# EAGLE library part MD-70SM (library con-cui)
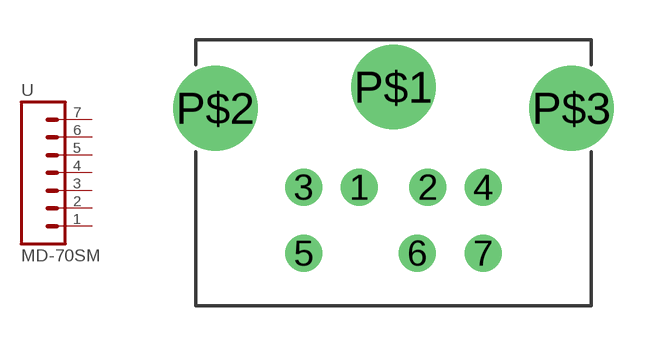
[diagram p1: symbol with the pads of MD-70SM; footprint MD-70SM]

Designator prefix -

## MD-70SM  [MD-70SM]
1  1  pas
2  2  pas
3  3  pas
4  4  pas
5  5  pas
6  6  pas
7  7  pas

## Footprint MD-70SM (pad centres in mm)
drill 0.9: 1 -1.3,-3.8; 2 1.3,-3.8; 3 -3.4,-3.8; 4 3.4,-3.8; 5 -3.4,-6.3; 6 0.9,-6.3; 7 3.4,-6.3
drill 2.2: P$1 0,0; P$2 -6.75,-0.8; P$3 6.75,-0.8